# EAGLE library part TEENSY2.0 (library TuansLib)
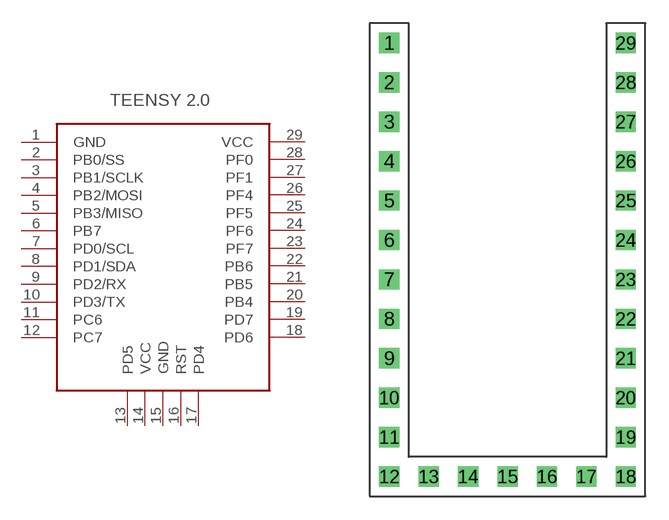
[diagram p10: symbol with the pads of TEENSY2.0; footprint TEENSY2.0]

Designator prefix -

## TEENSY2.0  [TEENSY2.0]
1  GND
2  PB0/SS
3  PB1/SCLK
4  PB2/MOSI
5  PB3/MISO
6  PB7
7  PD0/SCL
8  PD1/SDA
9  PD2/RX
10  PD3/TX
11  PC6
12  PC7
13  PD5
14  VCC
15  GND
16  RST
17  PD4
18  PD6
19  PD7
20  PB4
21  PB5
22  PB6
23  PF7
24  PF6
25  PF5
26  PF4
27  PF1
28  PF0
29  VCC

## Footprint TEENSY2.0 (pad centres in mm)
drill 0.8 square: 1 -7.62,15.24; 2 -7.62,12.7; 3 -7.62,10.16; 4 -7.62,7.62; 5 -7.62,5.08; 6 -7.62,2.54; 7 -7.62,0; 8 -7.62,-2.54; 9 -7.62,-5.08; 10 -7.62,-7.62; 11 -7.62,-10.16; 12 -7.62,-12.7; 13 -5.08,-12.7; 14 -2.54,-12.7; 15 0,-12.7; 16 2.54,-12.7; 17 5.08,-12.7; 18 7.62,-12.7; 19 7.62,-10.16; 20 7.62,-7.62; 21 7.62,-5.08; 22 7.62,-2.54; 23 7.62,0; 24 7.62,2.54; 25 7.62,5.08; 26 7.62,7.62; 27 7.62,10.16; 28 7.62,12.7; 29 7.62,15.24